# EAGLE library part USB-FCK002A_V2 (library usb)
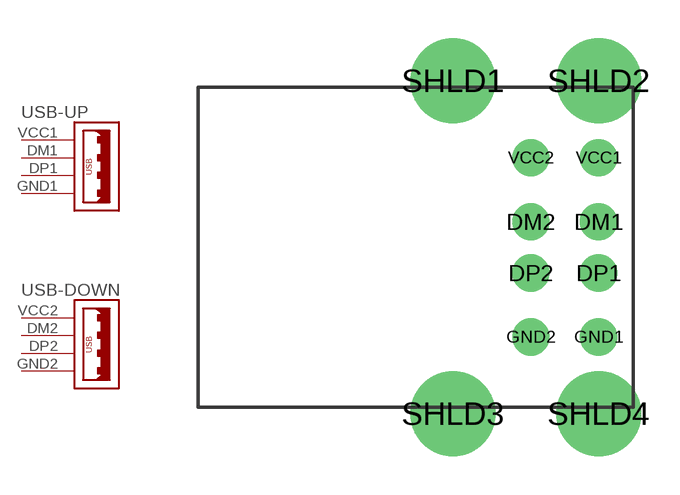
[diagram p2: symbol with the pads of FCK002A; footprint FCK002A]

Designator prefix USB; gates -DOWN=USB_X1 -UP=USB_X1

## USB-FCK002A_V2  [FCK002A]
DM1  -UP:2
DM2  -DOWN:2
DP1  -UP:3
DP2  -DOWN:3
GND1  -UP:4  pwr
GND2  -DOWN:4  pwr
VCC1  -UP:1
VCC2  -DOWN:1

## Footprint FCK002A (pad centres in mm)
drill 0.95: DM1 0,1; DM2 -2.65,1; DP1 0,-1; DP2 -2.65,-1; GND1 0,-3.5; GND2 -2.65,-3.5; VCC1 0,3.5; VCC2 -2.65,3.5
drill 2.3: SHLD1 -5.7,6.5; SHLD2 0,6.5; SHLD3 -5.7,-6.5; SHLD4 0,-6.5